# Altium footprint library PHOENIX_1933189.PcbLib: 1 footprints
Each footprint in its own frame and in the unit in brackets; x right, y up, seen from the top. Pads: shape width x height; smd on the part's side, far side on the other; paste and mask are expansions set on the pad; w line width, h text height; cw(c..) or ccw(c..) is an arc to the next point about the centre after c.
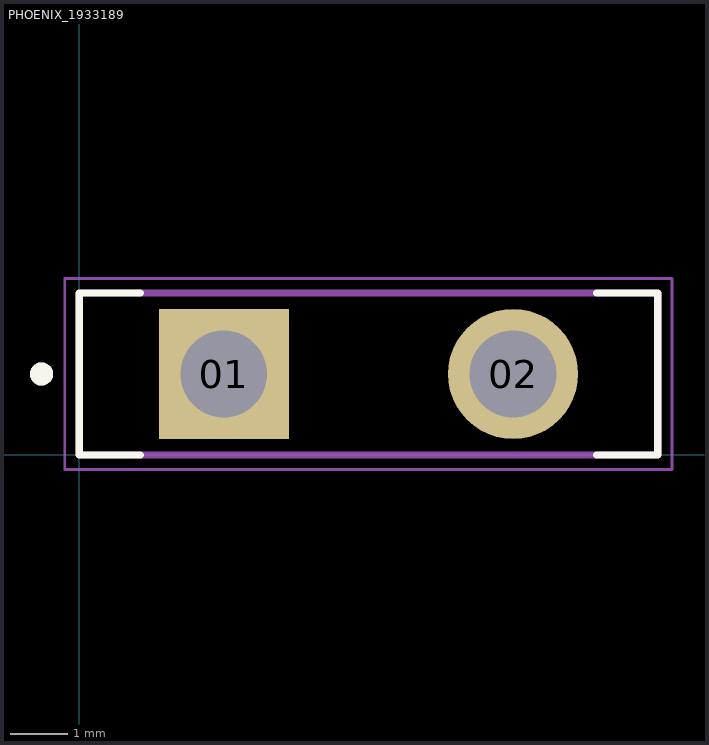
[diagram p0: the footprint, top view; thin cyan lines are the x and y axes]

## PHOENIX_1933189 [mm]
pads (2):
  rect 2.25x2.25 / inner round 2.25 / far side rect 2.25x2.25 hole 1.5: 01(2.5,1.4)
  round 2.25 hole 1.5: 02(7.5,1.4)
Top Overlay:
  circle w0.2: c-0.65,1.4 r0.1
  lines w0.127: 1.055,0 0,0 0,2.8 1.055,2.8 ; 8.945,0 10,0 10,2.8 8.945,2.8
Mechanical 13:
  circle w0.2: c-0.65,1.4 r0.1
  lines w0.127: 0,0 10,0 10,2.8 0,2.8 0,0
Mechanical 15:
  lines w0.05: -0.25,-0.25 10.25,-0.25 10.25,3.05 -0.25,3.05 -0.25,-0.25